# Altium schematic symbol library DROSEL.SchLib: 1 symbol
Pins are listed as number, name and electrical type; pins without a type are passive.

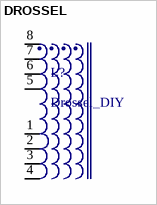
[diagram p0: symbol DROSSEL]

## DROSSEL
designator L?, comment Drossel_DIY
Drosel; PartNumber: 750311457; Manufacturer: Wuerth Elektronik; Ui: 36V; ComponentLink1Description: Manufacturer URL; ComponentLink2Description: Datasheet; ComponentLink1URL: http://www.we-online.com; PackageReference: EP13; ComponentLink2URL: http://katalog.we-online.de/pbs/datasheet/750311457.pdf
footprint Drossel
footprint 30A_10uH
pins: 1, 2, 3, 4, 5, 6, 7, 8